# EAGLE library part IWM (library liron3)
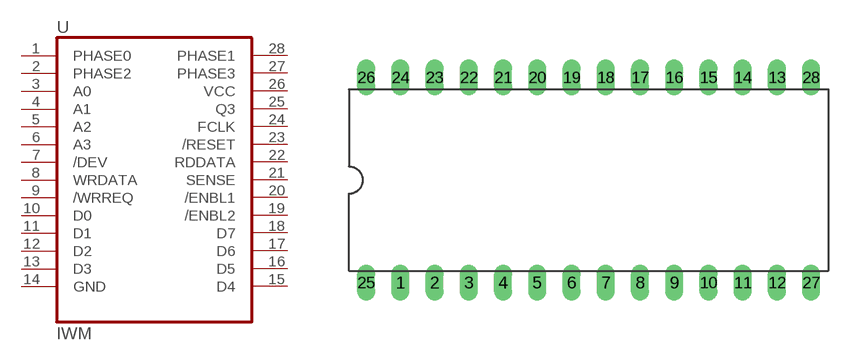
[diagram p7: symbol with the pads of DIL28; footprint DIL28]

Designator prefix -

## IWM  [DIL28]
1  PHASE0  in
2  PHASE2  in
3  A0  in
4  A1  in
5  A2  in
6  A3  in
7  /DEV  in
8  WRDATA  in
9  /WRREQ  in
10  D0  in
11  D1  in
12  D2  in
13  D3  in
14  GND  in
15  D4  hiz
16  D5  hiz
17  D6  hiz
18  D7  hiz
19  /ENBL2  hiz
20  /ENBL1  hiz
21  SENSE  hiz
22  RDDATA  hiz
23  /RESET  hiz
24  FCLK  hiz
25  Q3  hiz
26  VCC  hiz
27  PHASE3  hiz
28  PHASE1  hiz

## Footprint DIL28 (pad centres in mm)
drill 0.813 long: 1 -12.7,-7.62; 2 -10.16,-7.62; 3 -7.62,-7.62; 4 -5.08,-7.62; 5 -2.54,-7.62; 6 0,-7.62; 7 2.54,-7.62; 8 5.08,-7.62; 9 7.62,-7.62; 10 10.16,-7.62; 11 12.7,-7.62; 12 15.24,-7.62; 13 15.24,7.62; 14 12.7,7.62; 15 10.16,7.62; 16 7.62,7.62; 17 5.08,7.62; 18 2.54,7.62; 19 0,7.62; 20 -2.54,7.62; 21 -5.08,7.62; 22 -7.62,7.62; 23 -10.16,7.62; 24 -12.7,7.62; 25 -15.24,-7.62; 26 -15.24,7.62; 27 17.78,-7.62; 28 17.78,7.62